# Altium footprint library Vishay Draloric Footprints.PcbLib: 285 footprints (part 14 of 18)
Each footprint in its own frame and in the unit in brackets; x right, y up, seen from the top. Pads: shape width x height; smd on the part's side, far side on the other; paste and mask are expansions set on the pad; w line width, h text height; cw(c..) or ccw(c..) is an arc to the next point about the centre after c.
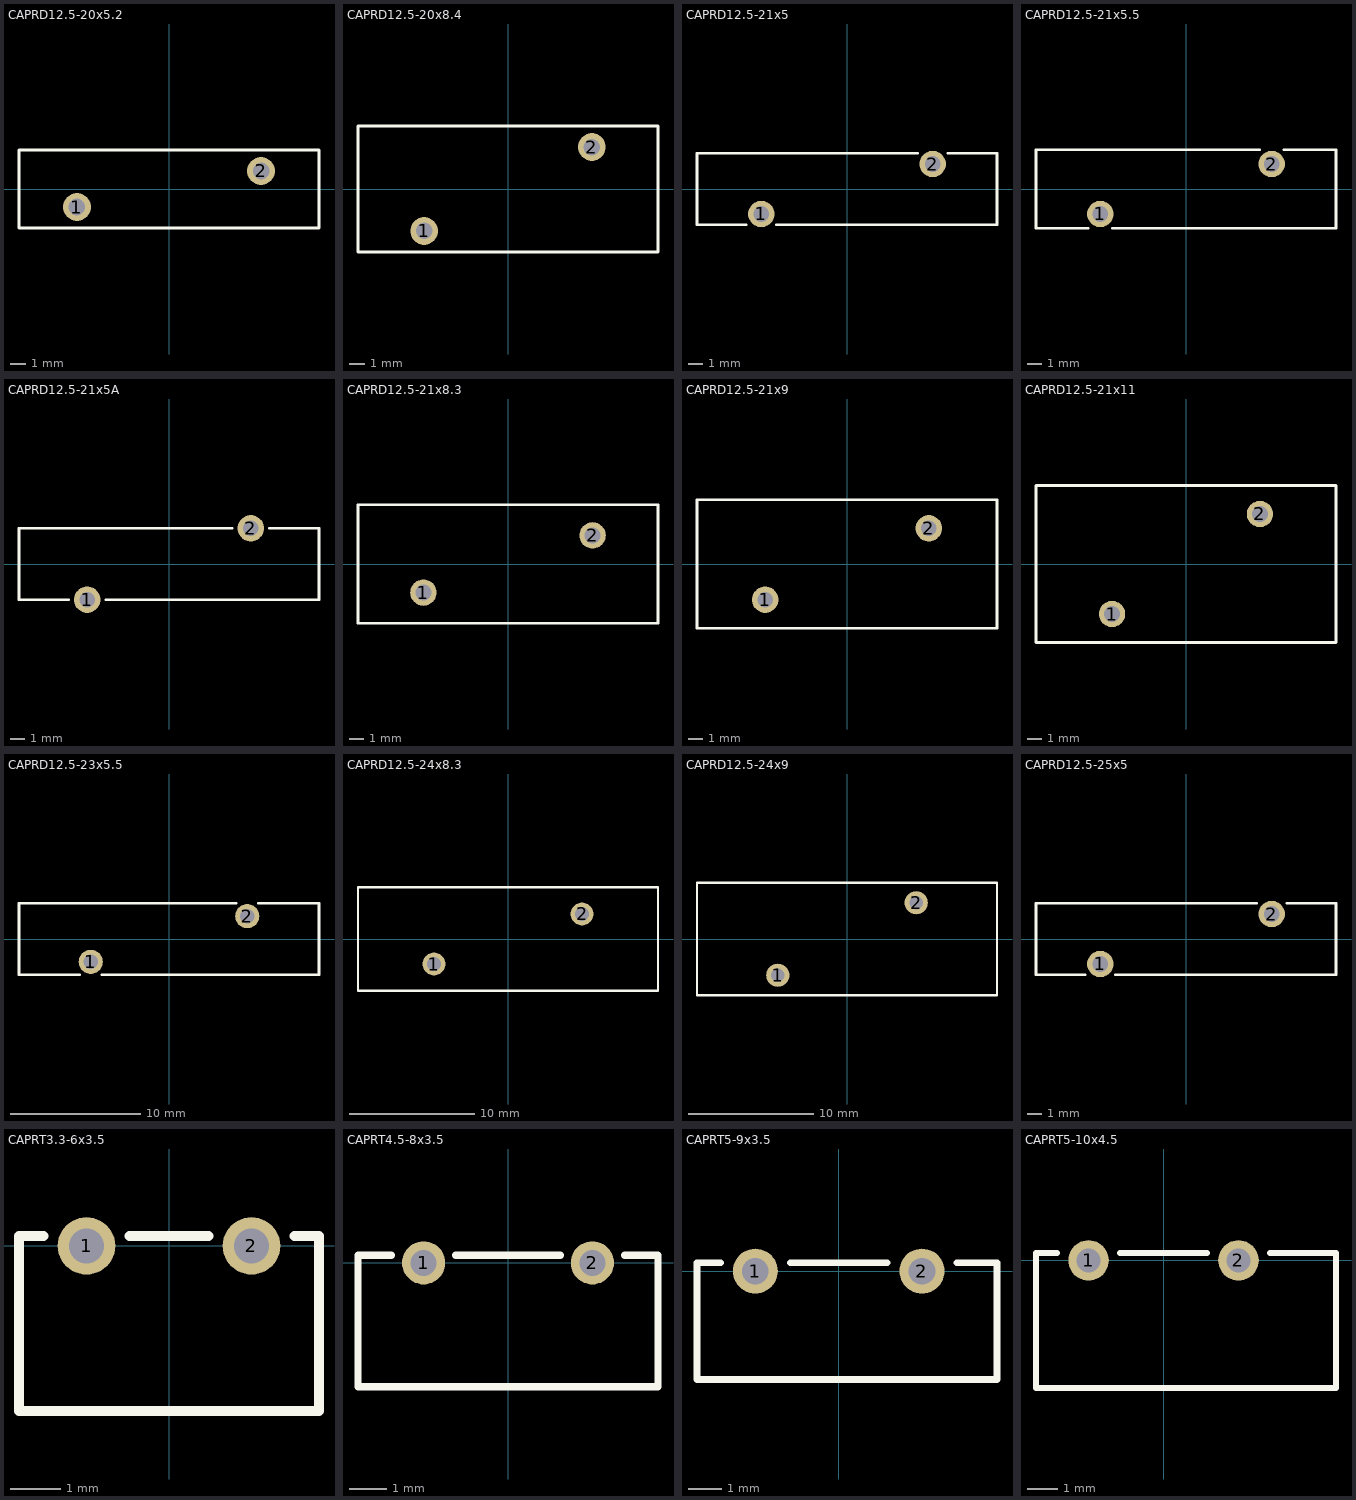
[diagram p13: the footprints below, top view; thin cyan lines are the x and y axes]

## CAPRD12.5-20x5.2 [mm] "Capacitor, Ceramic, Thru-Hole, Disc; Body 20 x 5.2 mm (LxW max) Pin Spacing 12.5 mm (typ)"
height 23
pads (2):
  round 1.85 hole 1.1: 1(-6.134,-1.2) 2(6.134,1.2)
Top Overlay:
  lines w0.2: -10,-2.6 -10,2.6 10,2.6 10,-2.6 -10,-2.6

## CAPRD12.5-20x8.4 [mm] "Capacitor, Ceramic, Thru-Hole, Disc; Body 20 x 8.4 mm (LxW max) Pin Spacing 12.5 mm (typ)"
height 23
pads (2):
  round 1.85 hole 1.1: 1(-5.588,-2.8) 2(5.588,2.8)
Top Overlay:
  lines w0.2: -10,-4.2 -10,4.2 10,4.2 10,-4.2 -10,-4.2

## CAPRD12.5-21x5 [mm] "Capacitor, Ceramic, Thru-Hole, Disc; Body 21 x 5 mm (LxW max) Pin Spacing 12.5 mm (typ)"
height 24
pads (2):
  round 1.85 hole 1.1: 1(-6,-1.75) 2(6,1.75)
Top Overlay:
  lines w0.2: -7.07,-2.5 -10.5,-2.5 -10.5,2.5 4.93,2.5 ; -4.93,-2.5 10.5,-2.5 10.5,2.5 7.07,2.5

## CAPRD12.5-21x5.5 [mm] "Capacitor, Ceramic, Thru-Hole, Disc; Body 21 x 5.5 mm (LxW max) Pin Spacing 12.5 mm (typ)"
height 24
pads (2):
  round 1.85 hole 1.1: 1(-6,-1.75) 2(6,1.75)
Top Overlay:
  lines w0.2: -6.84,-2.75 -10.5,-2.75 -10.5,2.75 5.16,2.75 ; -5.16,-2.75 10.5,-2.75 10.5,2.75 6.84,2.75

## CAPRD12.5-21x5A [mm] "Capacitor, Ceramic, Thru-Hole, Disc; Body 21 x 5 mm (LxW max) Pin Spacing 12.5 mm (typ)"
height 26
pads (2):
  round 1.85 hole 1.1: 1(-5.728,-2.5) 2(5.728,2.5)
Top Overlay:
  lines w0.2: -7.029,-2.5 -10.5,-2.5 -10.5,2.5 4.428,2.5 ; -4.428,-2.5 10.5,-2.5 10.5,2.5 7.029,2.5

## CAPRD12.5-21x8.3 [mm] "Capacitor, Ceramic, Thru-Hole, Disc; Body 21 x 8.3 mm (LxW max) Pin Spacing 12.5 mm (typ)"
height 24
pads (2):
  round 1.85 hole 1.1: 1(-5.921,-2) 2(5.921,2)
Top Overlay:
  lines w0.2: -10.5,-4.15 10.5,-4.15 10.5,4.15 -10.5,4.15 -10.5,-4.15

## CAPRD12.5-21x9 [mm] "Capacitor, Ceramic, Thru-Hole, Disc; Body 21 x 9 mm (LxW max) Pin Spacing 12.5 mm (typ)"
height 26
pads (2):
  round 1.85 hole 1.1: 1(-5.728,-2.5) 2(5.728,2.5)
Top Overlay:
  lines w0.2: -10.5,-4.5 10.5,-4.5 10.5,4.5 -10.5,4.5 -10.5,-4.5

## CAPRD12.5-21x11 [mm] "Capacitor, Ceramic, Thru-Hole, Disc; Body 21 x 11 mm (LxW max) Pin Spacing 12.5 mm (typ)"
height 26
pads (2):
  round 1.85 hole 1.1: 1(-5.178,-3.5) 2(5.178,3.5)
Top Overlay:
  lines w0.2: -10.5,-5.5 10.5,-5.5 10.5,5.5 -10.5,5.5 -10.5,-5.5

## CAPRD12.5-23x5.5 [mm] "Capacitor, Ceramic, Thru-Hole, Disc; Body 23 x 5.5 mm (LxW max) Pin Spacing 12.5 mm (typ)"
height 26
pads (2):
  round 1.85 hole 1.1: 1(-6,-1.75) 2(6,1.75)
Top Overlay:
  lines w0.2: -6.84,-2.75 -11.5,-2.75 -11.5,2.75 5.16,2.75 ; -5.16,-2.75 11.5,-2.75 11.5,2.75 6.84,2.75

## CAPRD12.5-24x8.3 [mm] "Capacitor, Ceramic, Thru-Hole, Disc; Body 24 x 8.3 mm (LxW max) Pin Spacing 12.5 mm (typ)"
height 27
pads (2):
  round 1.85 hole 1.1: 1(-5.921,-2) 2(5.921,2)
Top Overlay:
  lines w0.2: -12,-4.15 12,-4.15 12,4.15 -12,4.15 -12,-4.15

## CAPRD12.5-24x9 [mm] "Capacitor, Ceramic, Thru-Hole, Disc; Body 24 x 9 mm (LxW max) Pin Spacing 12.5 mm (typ)"
height 27
pads (2):
  round 1.85 hole 1.1: 1(-5.536,-2.9) 2(5.536,2.9)
Top Overlay:
  lines w0.2: -12,-4.5 -12,4.5 12,4.5 12,-4.5 -12,-4.5

## CAPRD12.5-25x5 [mm] "Capacitor, Ceramic, Thru-Hole, Disc; Body 25 x 5 mm (LxW max) Pin Spacing 12.5 mm (typ)"
height 28
pads (2):
  round 1.85 hole 1.1: 1(-6,-1.75) 2(6,1.75)
Top Overlay:
  lines w0.2: -7.07,-2.5 -10.5,-2.5 -10.5,2.5 4.93,2.5 ; -4.93,-2.5 10.5,-2.5 10.5,2.5 7.07,2.5

## CAPRT3.3-6x3.5 [mm] "Capacitor, Ceramic, Thu-Hole, Tubular; Body 6 x 3.5 mm (LxDia. max) Pin Spacing 3.3 mm (typ)"
height 6.5
pads (2):
  round 1.15 hole 0.7: 1(-1.65,0) 2(1.65,0)
Top Overlay:
  lines w0.2: -2.51,0.2 -3,0.2 -3,-3.3 3,-3.3 3,0.2 2.51,0.2 ; -0.79,0.2 0.79,0.2

## CAPRT4.5-8x3.5 [mm] "Capacitor, Ceramic, Thu-Hole, Tubular; Body 8 x 3.5 mm (LxDia. max) Pin Spacing 4.5 mm (typ)"
height 6.5
pads (2):
  round 1.15 hole 0.7: 1(-2.25,0) 2(2.25,0)
Top Overlay:
  lines w0.2: -3.11,0.2 -4,0.2 -4,-3.3 4,-3.3 4,0.2 3.11,0.2 ; -1.39,0.2 1.39,0.2

## CAPRT5-9x3.5 [mm] "Capacitor, Ceramic, Thu-Hole, Tubular; Body 9 x 3.5 mm (LxDia. max) Pin Spacing 5 mm (typ)"
height 5.5
pads (2):
  round 1.35 hole 0.8: 1(-2.5,0) 2(2.5,0)
Top Overlay:
  lines w0.2: -3.546,0.25 -4.25,0.25 -4.25,-3.25 4.75,-3.25 4.75,0.25 3.546,0.25 ; -1.454,0.25 1.454,0.25

## CAPRT5-10x4.5 [mm] "Capacitor, Ceramic, Thu-Hole, Tubular; Body 10 x 4.5 mm (LxDia. max) Pin Spacing 5 mm (typ)"
height 7.5
pads (2):
  round 1.35 hole 0.8: 1(-2.5,0) 2(2.5,0)
Top Overlay:
  lines w0.2: -3.546,0.25 -4.25,0.25 -4.25,-4.25 5.75,-4.25 5.75,0.25 3.546,0.25 ; -1.454,0.25 1.454,0.25